# Altium schematic symbol library Vishay Draloric Ceramic Disc Capacitor.SchLib: 519 symbols (part 7 of 8)
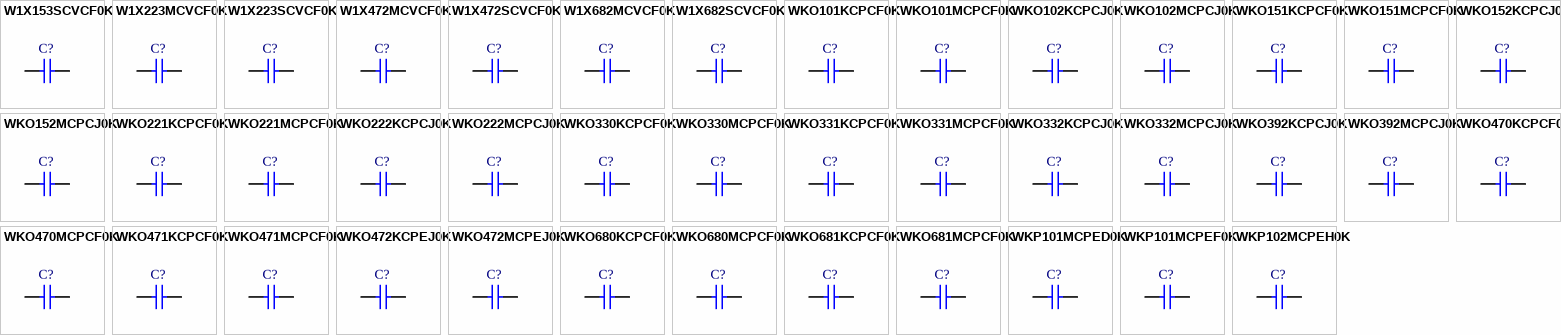
[diagram p18: symbols W1X153SCVCF0K to WKP102MCPEH0K]

## W1X223MCVCF0K
designator C?
Ceramic Disc Capacitor, Class X1 275VAC: 22nF K 10000; Note: See Datasheet for other lead types & tolerances; Published: 17-Dec-2003; DatasheetDocument: 2-Aug-2001; PackageDocument: 2-Aug-2001; PackageReference: CAPRD7.5-20X3; Publisher: Altium Limited; ComponentLink1Description: Manufacturer Link; ComponentLink1URL: http://www.vishay.com/; ComponentLink2Description: Datasheet; ComponentLink2URL: http://www.vishay.com/docs/22201/w1x.pdf; Value: 22nF
footprint CAPRD7.5-20X3 (Capacitor, Ceramic, Thru-Hole, Disc; Body 20 x 3 mm (LxW max) Pin Spacing 7.5 mm (typ))
simulation model CAP (Capacitor)
signal-integrity model Cap
pins: 1, 2

## W1X223SCVCF0K
designator C?
Ceramic Disc Capacitor, Class X1 275VAC: 22nF K 10000; Note: See Datasheet for other lead types & tolerances; Published: 17-Dec-2003; DatasheetDocument: 2-Aug-2001; PackageDocument: 2-Aug-2001; PackageReference: CAPRD7.5-20X3; Publisher: Altium Limited; ComponentLink1Description: Manufacturer Link; ComponentLink1URL: http://www.vishay.com/; ComponentLink2Description: Datasheet; ComponentLink2URL: http://www.vishay.com/docs/22201/w1x.pdf; Value: 22nF
footprint CAPRD7.5-20X3 (Capacitor, Ceramic, Thru-Hole, Disc; Body 20 x 3 mm (LxW max) Pin Spacing 7.5 mm (typ))
simulation model CAP (Capacitor)
signal-integrity model Cap
pins: 1, 2

## W1X472MCVCF0K
designator C?
Ceramic Disc Capacitor, Class X1 275VAC: 4700pF K 10000; Note: See Datasheet for other lead types & tolerances; Value: 4.7nF; Published: 17-Dec-2003; DatasheetDocument: 2-Aug-2001; PackageDocument: 2-Aug-2001; PackageReference: CAPRD7.5-11X3; Publisher: Altium Limited; ComponentLink1Description: Manufacturer Link; ComponentLink1URL: http://www.vishay.com/; ComponentLink2Description: Datasheet; ComponentLink2URL: http://www.vishay.com/docs/22201/w1x.pdf
footprint CAPRD7.5-11X3 (Capacitor, Ceramic, Thru-Hole, Disc; Body 11 x 3 mm (LxW max) Pin Spacing 7.5 mm (typ))
simulation model CAP (Capacitor)
signal-integrity model Cap
pins: 1, 2

## W1X472SCVCF0K
designator C?
Ceramic Disc Capacitor, Class X1 275VAC: 4700pF K 10000; Note: See Datasheet for other lead types & tolerances; Value: 4.7nF; Published: 17-Dec-2003; DatasheetDocument: 2-Aug-2001; PackageDocument: 2-Aug-2001; PackageReference: CAPRD7.5-11X3; Publisher: Altium Limited; ComponentLink1Description: Manufacturer Link; ComponentLink1URL: http://www.vishay.com/; ComponentLink2Description: Datasheet; ComponentLink2URL: http://www.vishay.com/docs/22201/w1x.pdf
footprint CAPRD7.5-11X3 (Capacitor, Ceramic, Thru-Hole, Disc; Body 11 x 3 mm (LxW max) Pin Spacing 7.5 mm (typ))
simulation model CAP (Capacitor)
signal-integrity model Cap
pins: 1, 2

## W1X682MCVCF0K
designator C?
Ceramic Disc Capacitor, Class X1 275VAC: 6800pF K 10000; Note: See Datasheet for other lead types & tolerances; Value: 6.8nF; Published: 17-Dec-2003; DatasheetDocument: 2-Aug-2001; PackageDocument: 2-Aug-2001; PackageReference: CAPRD7.5-11X3; Publisher: Altium Limited; ComponentLink1Description: Manufacturer Link; ComponentLink1URL: http://www.vishay.com/; ComponentLink2Description: Datasheet; ComponentLink2URL: http://www.vishay.com/docs/22201/w1x.pdf
footprint CAPRD7.5-11X3 (Capacitor, Ceramic, Thru-Hole, Disc; Body 11 x 3 mm (LxW max) Pin Spacing 7.5 mm (typ))
simulation model CAP (Capacitor)
signal-integrity model Cap
pins: 1, 2

## W1X682SCVCF0K
designator C?
Ceramic Disc Capacitor, Class X1 275VAC: 6800pF K 10000; Note: See Datasheet for other lead types & tolerances; Value: 6.8nF; Published: 17-Dec-2003; DatasheetDocument: 2-Aug-2001; PackageDocument: 2-Aug-2001; PackageReference: CAPRD7.5-11X3; Publisher: Altium Limited; ComponentLink1Description: Manufacturer Link; ComponentLink1URL: http://www.vishay.com/; ComponentLink2Description: Datasheet; ComponentLink2URL: http://www.vishay.com/docs/22201/w1x.pdf
footprint CAPRD7.5-11X3 (Capacitor, Ceramic, Thru-Hole, Disc; Body 11 x 3 mm (LxW max) Pin Spacing 7.5 mm (typ))
simulation model CAP (Capacitor)
signal-integrity model Cap
pins: 1, 2

## WKO101KCPCF0K
designator C?
Ceramic AC Capacitor, Class X1 440VAC / Class Y2 300VAC: 100pF K 1500; Note: See Datasheet for other lead types & tolerances; Published: 17-Dec-2003; DatasheetDocument: 2-Aug-2001; PackageDocument: 2-Aug-2001; PackageReference: CAPRD7.5-7X4.5; Publisher: Altium Limited; ComponentLink1Description: Manufacturer Link; ComponentLink1URL: http://www.vishay.com/; ComponentLink2Description: Datasheet; ComponentLink2URL: http://www.vishay.com/docs/22204/wko.pdf; Value: 100pF
footprint CAPRD7.5-7X4.5 (Capacitor, Ceramic, Thru-Hole, Disc; Body 7 x 4.5 mm (LxW max) Pin Spacing 7.5 mm (typ))
simulation model CAP (Capacitor)
signal-integrity model Cap
pins: 1, 2

## WKO101MCPCF0K
designator C?
Ceramic AC Capacitor, Class X1 440VAC / Class Y2 300VAC: 100pF K 1500; Note: See Datasheet for other lead types & tolerances; Published: 17-Dec-2003; DatasheetDocument: 2-Aug-2001; PackageDocument: 2-Aug-2001; PackageReference: CAPRD7.5-7X4.5; Publisher: Altium Limited; ComponentLink1Description: Manufacturer Link; ComponentLink1URL: http://www.vishay.com/; ComponentLink2Description: Datasheet; ComponentLink2URL: http://www.vishay.com/docs/22204/wko.pdf; Value: 100pF
footprint CAPRD7.5-7X4.5 (Capacitor, Ceramic, Thru-Hole, Disc; Body 7 x 4.5 mm (LxW max) Pin Spacing 7.5 mm (typ))
simulation model CAP (Capacitor)
signal-integrity model Cap
pins: 1, 2

## WKO102KCPCJ0K
designator C?
Ceramic AC Capacitor, Class X1 440VAC / Class Y2 300VAC: 1000pF K 4000; Note: See Datasheet for other lead types & tolerances; Value: 1nF; Published: 17-Dec-2003; DatasheetDocument: 2-Aug-2001; PackageDocument: 2-Aug-2001; PackageReference: CAPRD7.5-9X5B; Publisher: Altium Limited; ComponentLink1Description: Manufacturer Link; ComponentLink1URL: http://www.vishay.com/; ComponentLink2Description: Datasheet; ComponentLink2URL: http://www.vishay.com/docs/22204/wko.pdf
footprint CAPRD7.5-9X5B (Capacitor, Ceramic, Thru-Hole, Disc; Body 9 x 5 mm (LxW max) Pin Spacing 7.5 mm (typ))
simulation model CAP (Capacitor)
signal-integrity model Cap
pins: 1, 2

## WKO102MCPCJ0K
designator C?
Ceramic AC Capacitor, Class X1 440VAC / Class Y2 300VAC: 1000pF K 4000; Note: See Datasheet for other lead types & tolerances; Value: 1nF; Published: 17-Dec-2003; DatasheetDocument: 2-Aug-2001; PackageDocument: 2-Aug-2001; PackageReference: CAPRD7.5-9X5B; Publisher: Altium Limited; ComponentLink1Description: Manufacturer Link; ComponentLink1URL: http://www.vishay.com/; ComponentLink2Description: Datasheet; ComponentLink2URL: http://www.vishay.com/docs/22204/wko.pdf
footprint CAPRD7.5-9X5B (Capacitor, Ceramic, Thru-Hole, Disc; Body 9 x 5 mm (LxW max) Pin Spacing 7.5 mm (typ))
simulation model CAP (Capacitor)
signal-integrity model Cap
pins: 1, 2

## WKO151KCPCF0K
designator C?
Ceramic AC Capacitor, Class X1 440VAC / Class Y2 300VAC: 150pF K 2000; Note: See Datasheet for other lead types & tolerances; Published: 17-Dec-2003; DatasheetDocument: 2-Aug-2001; PackageDocument: 2-Aug-2001; PackageReference: CAPRD7.5-7X4.5; Publisher: Altium Limited; ComponentLink1Description: Manufacturer Link; ComponentLink1URL: http://www.vishay.com/; ComponentLink2Description: Datasheet; ComponentLink2URL: http://www.vishay.com/docs/22204/wko.pdf; Value: 150pF
footprint CAPRD7.5-7X4.5 (Capacitor, Ceramic, Thru-Hole, Disc; Body 7 x 4.5 mm (LxW max) Pin Spacing 7.5 mm (typ))
simulation model CAP (Capacitor)
signal-integrity model Cap
pins: 1, 2

## WKO151MCPCF0K
designator C?
Ceramic AC Capacitor, Class X1 440VAC / Class Y2 300VAC: 150pF K 2000; Note: See Datasheet for other lead types & tolerances; Published: 17-Dec-2003; DatasheetDocument: 2-Aug-2001; PackageDocument: 2-Aug-2001; PackageReference: CAPRD7.5-7X4.5; Publisher: Altium Limited; ComponentLink1Description: Manufacturer Link; ComponentLink1URL: http://www.vishay.com/; ComponentLink2Description: Datasheet; ComponentLink2URL: http://www.vishay.com/docs/22204/wko.pdf; Value: 150pF
footprint CAPRD7.5-7X4.5 (Capacitor, Ceramic, Thru-Hole, Disc; Body 7 x 4.5 mm (LxW max) Pin Spacing 7.5 mm (typ))
simulation model CAP (Capacitor)
signal-integrity model Cap
pins: 1, 2

## WKO152KCPCJ0K
designator C?
Ceramic AC Capacitor, Class X1 440VAC / Class Y2 300VAC: 1500pF K 4000; Note: See Datasheet for other lead types & tolerances; Value: 1.5nF; Published: 17-Dec-2003; DatasheetDocument: 2-Aug-2001; PackageDocument: 2-Aug-2001; PackageReference: CAPRD7.5-10X5B; Publisher: Altium Limited; ComponentLink1Description: Manufacturer Link; ComponentLink1URL: http://www.vishay.com/; ComponentLink2Description: Datasheet; ComponentLink2URL: http://www.vishay.com/docs/22204/wko.pdf
footprint CAPRD7.5-10X5B (Capacitor, Ceramic, Thru-Hole, Disc; Body 10 x 5 mm (LxW max) Pin Spacing 7.5 mm (typ))
simulation model CAP (Capacitor)
signal-integrity model Cap
pins: 1, 2

## WKO152MCPCJ0K
designator C?
Ceramic AC Capacitor, Class X1 440VAC / Class Y2 300VAC: 1500pF K 4000; Note: See Datasheet for other lead types & tolerances; Value: 1.5nF; Published: 17-Dec-2003; DatasheetDocument: 2-Aug-2001; PackageDocument: 2-Aug-2001; PackageReference: CAPRD7.5-10X5B; Publisher: Altium Limited; ComponentLink1Description: Manufacturer Link; ComponentLink1URL: http://www.vishay.com/; ComponentLink2Description: Datasheet; ComponentLink2URL: http://www.vishay.com/docs/22204/wko.pdf
footprint CAPRD7.5-10X5B (Capacitor, Ceramic, Thru-Hole, Disc; Body 10 x 5 mm (LxW max) Pin Spacing 7.5 mm (typ))
simulation model CAP (Capacitor)
signal-integrity model Cap
pins: 1, 2

## WKO221KCPCF0K
designator C?
Ceramic AC Capacitor, Class X1 440VAC / Class Y2 300VAC: 220pF K 2000; Note: See Datasheet for other lead types & tolerances; Published: 17-Dec-2003; DatasheetDocument: 2-Aug-2001; PackageDocument: 2-Aug-2001; PackageReference: CAPRD7.5-7X4.5; Publisher: Altium Limited; ComponentLink1Description: Manufacturer Link; ComponentLink1URL: http://www.vishay.com/; ComponentLink2Description: Datasheet; ComponentLink2URL: http://www.vishay.com/docs/22204/wko.pdf; Value: 220pF
footprint CAPRD7.5-7X4.5 (Capacitor, Ceramic, Thru-Hole, Disc; Body 7 x 4.5 mm (LxW max) Pin Spacing 7.5 mm (typ))
simulation model CAP (Capacitor)
signal-integrity model Cap
pins: 1, 2

## WKO221MCPCF0K
designator C?
Ceramic AC Capacitor, Class X1 440VAC / Class Y2 300VAC: 220pF K 2000; Note: See Datasheet for other lead types & tolerances; Published: 17-Dec-2003; DatasheetDocument: 2-Aug-2001; PackageDocument: 2-Aug-2001; PackageReference: CAPRD7.5-7X4.5; Publisher: Altium Limited; ComponentLink1Description: Manufacturer Link; ComponentLink1URL: http://www.vishay.com/; ComponentLink2Description: Datasheet; ComponentLink2URL: http://www.vishay.com/docs/22204/wko.pdf; Value: 220pF
footprint CAPRD7.5-7X4.5 (Capacitor, Ceramic, Thru-Hole, Disc; Body 7 x 4.5 mm (LxW max) Pin Spacing 7.5 mm (typ))
simulation model CAP (Capacitor)
signal-integrity model Cap
pins: 1, 2

## WKO222KCPCJ0K
designator C?
Ceramic AC Capacitor, Class X1 440VAC / Class Y2 300VAC: 2200pF K 4000; Note: See Datasheet for other lead types & tolerances; Value: 2.2nF; Published: 17-Dec-2003; DatasheetDocument: 2-Aug-2001; PackageDocument: 2-Aug-2001; PackageReference: CAPRD7.5-12X5; Publisher: Altium Limited; ComponentLink1Description: Manufacturer Link; ComponentLink1URL: http://www.vishay.com/; ComponentLink2Description: Datasheet; ComponentLink2URL: http://www.vishay.com/docs/22204/wko.pdf
footprint CAPRD7.5-12X5 (Capacitor, Ceramic, Thru-Hole, Disc; Body 12 x 5 mm (LxW max) Pin Spacing 7.5 mm (typ))
simulation model CAP (Capacitor)
signal-integrity model Cap
pins: 1, 2

## WKO222MCPCJ0K
designator C?
Ceramic AC Capacitor, Class X1 440VAC / Class Y2 300VAC: 2200pF K 4000; Note: See Datasheet for other lead types & tolerances; Value: 2.2nF; Published: 17-Dec-2003; DatasheetDocument: 2-Aug-2001; PackageDocument: 2-Aug-2001; PackageReference: CAPRD7.5-12X5; Publisher: Altium Limited; ComponentLink1Description: Manufacturer Link; ComponentLink1URL: http://www.vishay.com/; ComponentLink2Description: Datasheet; ComponentLink2URL: http://www.vishay.com/docs/22204/wko.pdf
footprint CAPRD7.5-12X5 (Capacitor, Ceramic, Thru-Hole, Disc; Body 12 x 5 mm (LxW max) Pin Spacing 7.5 mm (typ))
simulation model CAP (Capacitor)
signal-integrity model Cap
pins: 1, 2

## WKO330KCPCF0K
designator C?
Ceramic AC Capacitor, Class X1 440VAC / Class Y2 300VAC: 33pF N 750; Note: See Datasheet for other lead types & tolerances; Published: 17-Dec-2003; DatasheetDocument: 2-Aug-2001; PackageDocument: 2-Aug-2001; PackageReference: CAPRD7.5-7X4.5A; Publisher: Altium Limited; ComponentLink1Description: Manufacturer Link; ComponentLink1URL: http://www.vishay.com/; ComponentLink2Description: Datasheet; ComponentLink2URL: http://www.vishay.com/docs/22204/wko.pdf; Value: 33pF
footprint CAPRD7.5-7X4.5A (Capacitor, Ceramic, Thru-Hole, Disc; Body 7 x 4.5 mm (LxW max) Pin Spacing 7.5 mm (typ))
simulation model CAP (Capacitor)
signal-integrity model Cap
pins: 1, 2

## WKO330MCPCF0K
designator C?
Ceramic AC Capacitor, Class X1 440VAC / Class Y2 300VAC: 33pF N 750; Note: See Datasheet for other lead types & tolerances; Published: 17-Dec-2003; DatasheetDocument: 2-Aug-2001; PackageDocument: 2-Aug-2001; PackageReference: CAPRD7.5-7X4.5A; Publisher: Altium Limited; ComponentLink1Description: Manufacturer Link; ComponentLink1URL: http://www.vishay.com/; ComponentLink2Description: Datasheet; ComponentLink2URL: http://www.vishay.com/docs/22204/wko.pdf; Value: 33pF
footprint CAPRD7.5-7X4.5A (Capacitor, Ceramic, Thru-Hole, Disc; Body 7 x 4.5 mm (LxW max) Pin Spacing 7.5 mm (typ))
simulation model CAP (Capacitor)
signal-integrity model Cap
pins: 1, 2

## WKO331KCPCF0K
designator C?
Ceramic AC Capacitor, Class X1 440VAC / Class Y2 300VAC: 330pF K 2000; Note: See Datasheet for other lead types & tolerances; Published: 17-Dec-2003; DatasheetDocument: 2-Aug-2001; PackageDocument: 2-Aug-2001; PackageReference: CAPRD7.5-7X4.5; Publisher: Altium Limited; ComponentLink1Description: Manufacturer Link; ComponentLink1URL: http://www.vishay.com/; ComponentLink2Description: Datasheet; ComponentLink2URL: http://www.vishay.com/docs/22204/wko.pdf; Value: 330pF
footprint CAPRD7.5-7X4.5 (Capacitor, Ceramic, Thru-Hole, Disc; Body 7 x 4.5 mm (LxW max) Pin Spacing 7.5 mm (typ))
simulation model CAP (Capacitor)
signal-integrity model Cap
pins: 1, 2

## WKO331MCPCF0K
designator C?
Ceramic AC Capacitor, Class X1 440VAC / Class Y2 300VAC: 330pF K 2000; Note: See Datasheet for other lead types & tolerances; Published: 17-Dec-2003; DatasheetDocument: 2-Aug-2001; PackageDocument: 2-Aug-2001; PackageReference: CAPRD7.5-7X4.5; Publisher: Altium Limited; ComponentLink1Description: Manufacturer Link; ComponentLink1URL: http://www.vishay.com/; ComponentLink2Description: Datasheet; ComponentLink2URL: http://www.vishay.com/docs/22204/wko.pdf; Value: 330pF
footprint CAPRD7.5-7X4.5 (Capacitor, Ceramic, Thru-Hole, Disc; Body 7 x 4.5 mm (LxW max) Pin Spacing 7.5 mm (typ))
simulation model CAP (Capacitor)
signal-integrity model Cap
pins: 1, 2

## WKO332KCPCJ0K
designator C?
Ceramic AC Capacitor, Class X1 440VAC / Class Y2 300VAC: 3300pF K 4000; Note: See Datasheet for other lead types & tolerances; Value: 3.3nF; Published: 17-Dec-2003; DatasheetDocument: 2-Aug-2001; PackageDocument: 2-Aug-2001; PackageReference: CAPRD7.5-13X5A; Publisher: Altium Limited; ComponentLink1Description: Manufacturer Link; ComponentLink1URL: http://www.vishay.com/; ComponentLink2Description: Datasheet; ComponentLink2URL: http://www.vishay.com/docs/22204/wko.pdf
footprint CAPRD7.5-13X5A (Capacitor, Ceramic, Thru-Hole, Disc; Body 13 x 5 mm (LxW max) Pin Spacing 7.5 mm (typ))
simulation model CAP (Capacitor)
signal-integrity model Cap
pins: 1, 2

## WKO332MCPCJ0K
designator C?
Ceramic AC Capacitor, Class X1 440VAC / Class Y2 300VAC: 3300pF K 4000; Note: See Datasheet for other lead types & tolerances; Value: 3.3nF; Published: 17-Dec-2003; DatasheetDocument: 2-Aug-2001; PackageDocument: 2-Aug-2001; PackageReference: CAPRD7.5-13X5A; Publisher: Altium Limited; ComponentLink1Description: Manufacturer Link; ComponentLink1URL: http://www.vishay.com/; ComponentLink2Description: Datasheet; ComponentLink2URL: http://www.vishay.com/docs/22204/wko.pdf
footprint CAPRD7.5-13X5A (Capacitor, Ceramic, Thru-Hole, Disc; Body 13 x 5 mm (LxW max) Pin Spacing 7.5 mm (typ))
simulation model CAP (Capacitor)
signal-integrity model Cap
pins: 1, 2

## WKO392KCPCJ0K
designator C?
Ceramic AC Capacitor, Class X1 440VAC / Class Y2 300VAC: 3900pF K 4000; Note: See Datasheet for other lead types & tolerances; Value: 3.9nF; Published: 17-Dec-2003; DatasheetDocument: 2-Aug-2001; PackageDocument: 2-Aug-2001; PackageReference: CAPRD7.5-14.5X5; Publisher: Altium Limited; ComponentLink1Description: Manufacturer Link; ComponentLink1URL: http://www.vishay.com/; ComponentLink2Description: Datasheet; ComponentLink2URL: http://www.vishay.com/docs/22204/wko.pdf
footprint CAPRD7.5-14.5X5 (Capacitor, Ceramic, Thru-Hole, Disc; Body 14.5 x 5 mm (LxW max) Pin Spacing 7.5 mm (typ))
simulation model CAP (Capacitor)
signal-integrity model Cap
pins: 1, 2

## WKO392MCPCJ0K
designator C?
Ceramic AC Capacitor, Class X1 440VAC / Class Y2 300VAC: 3900pF K 4000; Note: See Datasheet for other lead types & tolerances; Value: 3.9nF; Published: 17-Dec-2003; DatasheetDocument: 2-Aug-2001; PackageDocument: 2-Aug-2001; PackageReference: CAPRD7.5-14.5X5; Publisher: Altium Limited; ComponentLink1Description: Manufacturer Link; ComponentLink1URL: http://www.vishay.com/; ComponentLink2Description: Datasheet; ComponentLink2URL: http://www.vishay.com/docs/22204/wko.pdf
footprint CAPRD7.5-14.5X5 (Capacitor, Ceramic, Thru-Hole, Disc; Body 14.5 x 5 mm (LxW max) Pin Spacing 7.5 mm (typ))
simulation model CAP (Capacitor)
signal-integrity model Cap
pins: 1, 2

## WKO470KCPCF0K
designator C?
Ceramic AC Capacitor, Class X1 440VAC / Class Y2 300VAC: 47pF N 750; Note: See Datasheet for other lead types & tolerances; Published: 17-Dec-2003; DatasheetDocument: 2-Aug-2001; PackageDocument: 2-Aug-2001; PackageReference: CAPRD7.5-7X4.5A; Publisher: Altium Limited; ComponentLink1Description: Manufacturer Link; ComponentLink1URL: http://www.vishay.com/; ComponentLink2Description: Datasheet; ComponentLink2URL: http://www.vishay.com/docs/22204/wko.pdf; Value: 47pF
footprint CAPRD7.5-7X4.5A (Capacitor, Ceramic, Thru-Hole, Disc; Body 7 x 4.5 mm (LxW max) Pin Spacing 7.5 mm (typ))
simulation model CAP (Capacitor)
signal-integrity model Cap
pins: 1, 2

## WKO470MCPCF0K
designator C?
Ceramic AC Capacitor, Class X1 440VAC / Class Y2 300VAC: 47pF N 750; Note: See Datasheet for other lead types & tolerances; Published: 17-Dec-2003; DatasheetDocument: 2-Aug-2001; PackageDocument: 2-Aug-2001; PackageReference: CAPRD7.5-7X4.5A; Publisher: Altium Limited; ComponentLink1Description: Manufacturer Link; ComponentLink1URL: http://www.vishay.com/; ComponentLink2Description: Datasheet; ComponentLink2URL: http://www.vishay.com/docs/22204/wko.pdf; Value: 47pF
footprint CAPRD7.5-7X4.5A (Capacitor, Ceramic, Thru-Hole, Disc; Body 7 x 4.5 mm (LxW max) Pin Spacing 7.5 mm (typ))
simulation model CAP (Capacitor)
signal-integrity model Cap
pins: 1, 2

## WKO471KCPCF0K
designator C?
Ceramic AC Capacitor, Class X1 440VAC / Class Y2 300VAC: 470pF K 4000; Note: See Datasheet for other lead types & tolerances; Published: 17-Dec-2003; DatasheetDocument: 2-Aug-2001; PackageDocument: 2-Aug-2001; PackageReference: CAPRD7.5-7X4.5; Publisher: Altium Limited; ComponentLink1Description: Manufacturer Link; ComponentLink1URL: http://www.vishay.com/; ComponentLink2Description: Datasheet; ComponentLink2URL: http://www.vishay.com/docs/22204/wko.pdf; Value: 470pF
footprint CAPRD7.5-7X4.5 (Capacitor, Ceramic, Thru-Hole, Disc; Body 7 x 4.5 mm (LxW max) Pin Spacing 7.5 mm (typ))
simulation model CAP (Capacitor)
signal-integrity model Cap
pins: 1, 2

## WKO471MCPCF0K
designator C?
Ceramic AC Capacitor, Class X1 440VAC / Class Y2 300VAC: 470pF K 4000; Note: See Datasheet for other lead types & tolerances; Published: 17-Dec-2003; DatasheetDocument: 2-Aug-2001; PackageDocument: 2-Aug-2001; PackageReference: CAPRD7.5-7X4.5; Publisher: Altium Limited; ComponentLink1Description: Manufacturer Link; ComponentLink1URL: http://www.vishay.com/; ComponentLink2Description: Datasheet; ComponentLink2URL: http://www.vishay.com/docs/22204/wko.pdf; Value: 470pF
footprint CAPRD7.5-7X4.5 (Capacitor, Ceramic, Thru-Hole, Disc; Body 7 x 4.5 mm (LxW max) Pin Spacing 7.5 mm (typ))
simulation model CAP (Capacitor)
signal-integrity model Cap
pins: 1, 2

## WKO472KCPEJ0K
designator C?
Ceramic AC Capacitor, Class X1 440VAC / Class Y2 300VAC: 4700pF K 4000; Note: See Datasheet for other lead types & tolerances; Value: 4.7nF; Published: 17-Dec-2003; DatasheetDocument: 2-Aug-2001; PackageDocument: 2-Aug-2001; PackageReference: CAPRD12.5-14.5X5; Publisher: Altium Limited; ComponentLink1Description: Manufacturer Link; ComponentLink1URL: http://www.vishay.com/; ComponentLink2Description: Datasheet; ComponentLink2URL: http://www.vishay.com/docs/22204/wko.pdf
footprint CAPRD12.5-14.5X5 (Capacitor, Ceramic, Thru-Hole, Disc; Body 14.5 x 5 mm (LxW max) Pin Spacing 12.5 mm (typ))
simulation model CAP (Capacitor)
signal-integrity model Cap
pins: 1, 2

## WKO472MCPEJ0K
designator C?
Ceramic AC Capacitor, Class X1 440VAC / Class Y2 300VAC: 4700pF K 4000; Note: See Datasheet for other lead types & tolerances; Value: 4.7nF; Published: 17-Dec-2003; DatasheetDocument: 2-Aug-2001; PackageDocument: 2-Aug-2001; PackageReference: CAPRD12.5-14.5X5; Publisher: Altium Limited; ComponentLink1Description: Manufacturer Link; ComponentLink1URL: http://www.vishay.com/; ComponentLink2Description: Datasheet; ComponentLink2URL: http://www.vishay.com/docs/22204/wko.pdf
footprint CAPRD12.5-14.5X5 (Capacitor, Ceramic, Thru-Hole, Disc; Body 14.5 x 5 mm (LxW max) Pin Spacing 12.5 mm (typ))
simulation model CAP (Capacitor)
signal-integrity model Cap
pins: 1, 2

## WKO680KCPCF0K
designator C?
Ceramic AC Capacitor, Class X1 440VAC / Class Y2 300VAC: 68pF K 1200; Note: See Datasheet for other lead types & tolerances; Published: 17-Dec-2003; DatasheetDocument: 2-Aug-2001; PackageDocument: 2-Aug-2001; PackageReference: CAPRD7.5-7X4.5; Publisher: Altium Limited; ComponentLink1Description: Manufacturer Link; ComponentLink1URL: http://www.vishay.com/; ComponentLink2Description: Datasheet; ComponentLink2URL: http://www.vishay.com/docs/22204/wko.pdf; Value: 68pF
footprint CAPRD7.5-7X4.5 (Capacitor, Ceramic, Thru-Hole, Disc; Body 7 x 4.5 mm (LxW max) Pin Spacing 7.5 mm (typ))
simulation model CAP (Capacitor)
signal-integrity model Cap
pins: 1, 2

## WKO680MCPCF0K
designator C?
Ceramic AC Capacitor, Class X1 440VAC / Class Y2 300VAC: 68pF K 1200; Note: See Datasheet for other lead types & tolerances; Published: 17-Dec-2003; DatasheetDocument: 2-Aug-2001; PackageDocument: 2-Aug-2001; PackageReference: CAPRD7.5-7X4.5; Publisher: Altium Limited; ComponentLink1Description: Manufacturer Link; ComponentLink1URL: http://www.vishay.com/; ComponentLink2Description: Datasheet; ComponentLink2URL: http://www.vishay.com/docs/22204/wko.pdf; Value: 68pF
footprint CAPRD7.5-7X4.5 (Capacitor, Ceramic, Thru-Hole, Disc; Body 7 x 4.5 mm (LxW max) Pin Spacing 7.5 mm (typ))
simulation model CAP (Capacitor)
signal-integrity model Cap
pins: 1, 2

## WKO681KCPCF0K
designator C?
Ceramic AC Capacitor, Class X1 440VAC / Class Y2 300VAC: 680pF K 4000; Note: See Datasheet for other lead types & tolerances; Published: 17-Dec-2003; DatasheetDocument: 2-Aug-2001; PackageDocument: 2-Aug-2001; PackageReference: CAPRD7.5-9X5A; Publisher: Altium Limited; ComponentLink1Description: Manufacturer Link; ComponentLink1URL: http://www.vishay.com/; ComponentLink2Description: Datasheet; ComponentLink2URL: http://www.vishay.com/docs/22204/wko.pdf; Value: 680pF
footprint CAPRD7.5-9X5A (Capacitor, Ceramic, Thru-Hole, Disc; Body 9 x 5 mm (LxW max) Pin Spacing 7.5 mm (typ))
simulation model CAP (Capacitor)
signal-integrity model Cap
pins: 1, 2

## WKO681MCPCF0K
designator C?
Ceramic AC Capacitor, Class X1 440VAC / Class Y2 300VAC: 680pF K 4000; Note: See Datasheet for other lead types & tolerances; Published: 17-Dec-2003; DatasheetDocument: 2-Aug-2001; PackageDocument: 2-Aug-2001; PackageReference: CAPRD7.5-9X5A; Publisher: Altium Limited; ComponentLink1Description: Manufacturer Link; ComponentLink1URL: http://www.vishay.com/; ComponentLink2Description: Datasheet; ComponentLink2URL: http://www.vishay.com/docs/22204/wko.pdf; Value: 680pF
footprint CAPRD7.5-9X5A (Capacitor, Ceramic, Thru-Hole, Disc; Body 9 x 5 mm (LxW max) Pin Spacing 7.5 mm (typ))
simulation model CAP (Capacitor)
signal-integrity model Cap
pins: 1, 2

## WKP101MCPED0K
designator C?
Ceramic Disc Suppression Capacitor, Class X1 AC 760V / Class Y1 AC 500V: 100pF +/-20% K1500; Note: See Datasheet for other lead types & tolerances; Published: 17-Dec-2003; DatasheetDocument: 6-Oct-2000; PackageDocument: 2-Aug-2001; PackageReference: CAPRD12.5-8X6; Publisher: Altium Limited; ComponentLink1Description: Manufacturer Link; ComponentLink1URL: http://www.vishay.com/; ComponentLink2Description: Datasheet; ComponentLink2URL: http://www.vishay.com/docs/22206/wkp.pdf; Value: 100pF
footprint CAPRD12.5-8X6 (Capacitor, Ceramic, Thru-Hole, Disc; Body 8 x 6 mm (LxW max) Pin Spacing 12.5 mm (typ))
simulation model CAP (Capacitor)
signal-integrity model Cap
pins: 1, 2

## WKP101MCPEF0K
designator C?
Ceramic Disc Suppression Capacitor, Class X1 AC 760V / Class Y1 AC 500V: 100pF +/-20% K1500; Note: See Datasheet for other lead types & tolerances; Published: 17-Dec-2003; DatasheetDocument: 6-Oct-2000; PackageDocument: 2-Aug-2001; PackageReference: CAPRD12.5-8X6; Publisher: Altium Limited; ComponentLink1Description: Manufacturer Link; ComponentLink1URL: http://www.vishay.com/; ComponentLink2Description: Datasheet; ComponentLink2URL: http://www.vishay.com/docs/22206/wkp.pdf; Value: 100pF
footprint CAPRD12.5-8X6 (Capacitor, Ceramic, Thru-Hole, Disc; Body 8 x 6 mm (LxW max) Pin Spacing 12.5 mm (typ))
simulation model CAP (Capacitor)
signal-integrity model Cap
pins: 1, 2

## WKP102MCPEH0K
designator C?
Ceramic Disc Suppression Capacitor, Class X1 AC 760V / Class Y1 AC 500V: 1000pF +/-20% K 2000; Note: See Datasheet for other lead types & tolerances; Value: 1nF; Published: 17-Dec-2003; DatasheetDocument: 6-Oct-2000; PackageDocument: 2-Aug-2001; PackageReference: CAPRD12.5-10X6; Publisher: Altium Limited; ComponentLink1Description: Manufacturer Link; ComponentLink1URL: http://www.vishay.com/; ComponentLink2Description: Datasheet; ComponentLink2URL: http://www.vishay.com/docs/22206/wkp.pdf
footprint CAPRD12.5-10X6 (Capacitor, Ceramic, Thru-Hole, Disc; Body 10 x 6 mm (LxW max) Pin Spacing 12.5 mm (typ))
simulation model CAP (Capacitor)
signal-integrity model Cap
pins: 1, 2

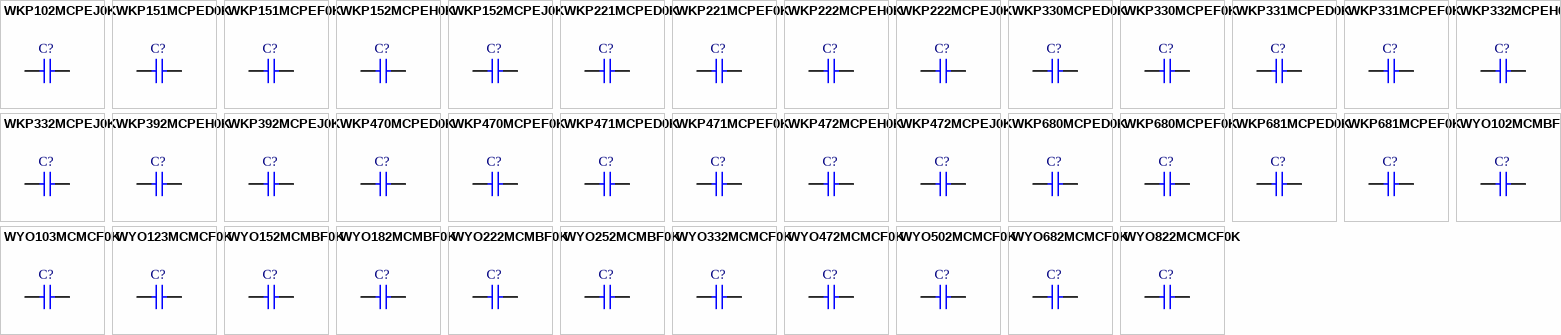
[diagram p12: symbols WKP102MCPEJ0K to WYO822MCMCF0K]

## WKP102MCPEJ0K
designator C?
Ceramic Disc Suppression Capacitor, Class X1 AC 760V / Class Y1 AC 500V: 1000pF +/-20% K 2000; Note: See Datasheet for other lead types & tolerances; Value: 1nF; Published: 17-Dec-2003; DatasheetDocument: 6-Oct-2000; PackageDocument: 2-Aug-2001; PackageReference: CAPRD12.5-10X6; Publisher: Altium Limited; ComponentLink1Description: Manufacturer Link; ComponentLink1URL: http://www.vishay.com/; ComponentLink2Description: Datasheet; ComponentLink2URL: http://www.vishay.com/docs/22206/wkp.pdf
footprint CAPRD12.5-10X6 (Capacitor, Ceramic, Thru-Hole, Disc; Body 10 x 6 mm (LxW max) Pin Spacing 12.5 mm (typ))
simulation model CAP (Capacitor)
signal-integrity model Cap
pins: 1, 2

## WKP151MCPED0K
designator C?
Ceramic Disc Suppression Capacitor, Class X1 AC 760V / Class Y1 AC 500V: 150pF +/-20% K 2000; Note: See Datasheet for other lead types & tolerances; Published: 17-Dec-2003; DatasheetDocument: 6-Oct-2000; PackageDocument: 2-Aug-2001; PackageReference: CAPRD12.5-8X6; Publisher: Altium Limited; ComponentLink1Description: Manufacturer Link; ComponentLink1URL: http://www.vishay.com/; ComponentLink2Description: Datasheet; ComponentLink2URL: http://www.vishay.com/docs/22206/wkp.pdf; Value: 150pF
footprint CAPRD12.5-8X6 (Capacitor, Ceramic, Thru-Hole, Disc; Body 8 x 6 mm (LxW max) Pin Spacing 12.5 mm (typ))
simulation model CAP (Capacitor)
signal-integrity model Cap
pins: 1, 2

## WKP151MCPEF0K
designator C?
Ceramic Disc Suppression Capacitor, Class X1 AC 760V / Class Y1 AC 500V: 150pF +/-20% K 2000; Note: See Datasheet for other lead types & tolerances; Published: 17-Dec-2003; DatasheetDocument: 6-Oct-2000; PackageDocument: 2-Aug-2001; PackageReference: CAPRD12.5-8X6; Publisher: Altium Limited; ComponentLink1Description: Manufacturer Link; ComponentLink1URL: http://www.vishay.com/; ComponentLink2Description: Datasheet; ComponentLink2URL: http://www.vishay.com/docs/22206/wkp.pdf; Value: 150pF
footprint CAPRD12.5-8X6 (Capacitor, Ceramic, Thru-Hole, Disc; Body 8 x 6 mm (LxW max) Pin Spacing 12.5 mm (typ))
simulation model CAP (Capacitor)
signal-integrity model Cap
pins: 1, 2

## WKP152MCPEH0K
designator C?
Ceramic Disc Suppression Capacitor, Class X1 AC 760V / Class Y1 AC 500V: 1500pF +/-20% K 4000; Note: See Datasheet for other lead types & tolerances; Value: 1.5nF; Published: 17-Dec-2003; DatasheetDocument: 6-Oct-2000; PackageDocument: 2-Aug-2001; PackageReference: CAPRD12.5-12X6; Publisher: Altium Limited; ComponentLink1Description: Manufacturer Link; ComponentLink1URL: http://www.vishay.com/; ComponentLink2Description: Datasheet; ComponentLink2URL: http://www.vishay.com/docs/22206/wkp.pdf
footprint CAPRD12.5-12X6 (Capacitor, Ceramic, Thru-Hole, Disc; Body 12 x 6 mm (LxW max) Pin Spacing 12.5 mm (typ))
simulation model CAP (Capacitor)
signal-integrity model Cap
pins: 1, 2

## WKP152MCPEJ0K
designator C?
Ceramic Disc Suppression Capacitor, Class X1 AC 760V / Class Y1 AC 500V: 1500pF +/-20% K 4000; Note: See Datasheet for other lead types & tolerances; Value: 1.5nF; Published: 17-Dec-2003; DatasheetDocument: 6-Oct-2000; PackageDocument: 2-Aug-2001; PackageReference: CAPRD12.5-12X6; Publisher: Altium Limited; ComponentLink1Description: Manufacturer Link; ComponentLink1URL: http://www.vishay.com/; ComponentLink2Description: Datasheet; ComponentLink2URL: http://www.vishay.com/docs/22206/wkp.pdf
footprint CAPRD12.5-12X6 (Capacitor, Ceramic, Thru-Hole, Disc; Body 12 x 6 mm (LxW max) Pin Spacing 12.5 mm (typ))
simulation model CAP (Capacitor)
signal-integrity model Cap
pins: 1, 2

## WKP221MCPED0K
designator C?
Ceramic Disc Suppression Capacitor, Class X1 AC 760V / Class Y1 AC 500V: 220pF +/-20% K 2000; Note: See Datasheet for other lead types & tolerances; Published: 17-Dec-2003; DatasheetDocument: 6-Oct-2000; PackageDocument: 2-Aug-2001; PackageReference: CAPRD12.5-8X6; Publisher: Altium Limited; ComponentLink1Description: Manufacturer Link; ComponentLink1URL: http://www.vishay.com/; ComponentLink2Description: Datasheet; ComponentLink2URL: http://www.vishay.com/docs/22206/wkp.pdf; Value: 220pF
footprint CAPRD12.5-8X6 (Capacitor, Ceramic, Thru-Hole, Disc; Body 8 x 6 mm (LxW max) Pin Spacing 12.5 mm (typ))
simulation model CAP (Capacitor)
signal-integrity model Cap
pins: 1, 2

## WKP221MCPEF0K
designator C?
Ceramic Disc Suppression Capacitor, Class X1 AC 760V / Class Y1 AC 500V: 220pF +/-20% K 2000; Note: See Datasheet for other lead types & tolerances; Published: 17-Dec-2003; DatasheetDocument: 6-Oct-2000; PackageDocument: 2-Aug-2001; PackageReference: CAPRD12.5-8X6; Publisher: Altium Limited; ComponentLink1Description: Manufacturer Link; ComponentLink1URL: http://www.vishay.com/; ComponentLink2Description: Datasheet; ComponentLink2URL: http://www.vishay.com/docs/22206/wkp.pdf; Value: 220pF
footprint CAPRD12.5-8X6 (Capacitor, Ceramic, Thru-Hole, Disc; Body 8 x 6 mm (LxW max) Pin Spacing 12.5 mm (typ))
simulation model CAP (Capacitor)
signal-integrity model Cap
pins: 1, 2

## WKP222MCPEH0K
designator C?
Ceramic Disc Suppression Capacitor, Class X1 AC 760V / Class Y1 AC 500V: 2200pF +/-20% K 4000; Note: See Datasheet for other lead types & tolerances; Value: 2.2nF; Published: 17-Dec-2003; DatasheetDocument: 6-Oct-2000; PackageDocument: 2-Aug-2001; PackageReference: CAPRD12.5-13X6; Publisher: Altium Limited; ComponentLink1Description: Manufacturer Link; ComponentLink1URL: http://www.vishay.com/; ComponentLink2Description: Datasheet; ComponentLink2URL: http://www.vishay.com/docs/22206/wkp.pdf
footprint CAPRD12.5-13X6 (Capacitor, Ceramic, Thru-Hole, Disc; Body 13 x 6 mm (LxW max) Pin Spacing 12.5 mm (typ))
simulation model CAP (Capacitor)
signal-integrity model Cap
pins: 1, 2

## WKP222MCPEJ0K
designator C?
Ceramic Disc Suppression Capacitor, Class X1 AC 760V / Class Y1 AC 500V: 2200pF +/-20% K 4000; Note: See Datasheet for other lead types & tolerances; Value: 2.2nF; Published: 17-Dec-2003; DatasheetDocument: 6-Oct-2000; PackageDocument: 2-Aug-2001; PackageReference: CAPRD12.5-13X6; Publisher: Altium Limited; ComponentLink1Description: Manufacturer Link; ComponentLink1URL: http://www.vishay.com/; ComponentLink2Description: Datasheet; ComponentLink2URL: http://www.vishay.com/docs/22206/wkp.pdf
footprint CAPRD12.5-13X6 (Capacitor, Ceramic, Thru-Hole, Disc; Body 13 x 6 mm (LxW max) Pin Spacing 12.5 mm (typ))
simulation model CAP (Capacitor)
signal-integrity model Cap
pins: 1, 2

## WKP330MCPED0K
designator C?
Ceramic Disc Suppression Capacitor, Class X1 AC 760V / Class Y1 AC 500V: 33pF +/-20% N 750; Note: See Datasheet for other lead types & tolerances; Published: 17-Dec-2003; DatasheetDocument: 6-Oct-2000; PackageDocument: 2-Aug-2001; PackageReference: CAPRD12.5-8X6; Publisher: Altium Limited; ComponentLink1Description: Manufacturer Link; ComponentLink1URL: http://www.vishay.com/; ComponentLink2Description: Datasheet; ComponentLink2URL: http://www.vishay.com/docs/22206/wkp.pdf; Value: 33pF
footprint CAPRD12.5-8X6 (Capacitor, Ceramic, Thru-Hole, Disc; Body 8 x 6 mm (LxW max) Pin Spacing 12.5 mm (typ))
simulation model CAP (Capacitor)
signal-integrity model Cap
pins: 1, 2

## WKP330MCPEF0K
designator C?
Ceramic Disc Suppression Capacitor, Class X1 AC 760V / Class Y1 AC 500V: 33pF +/-20% N 750; Note: See Datasheet for other lead types & tolerances; Published: 17-Dec-2003; DatasheetDocument: 6-Oct-2000; PackageDocument: 2-Aug-2001; PackageReference: CAPRD12.5-8X6; Publisher: Altium Limited; ComponentLink1Description: Manufacturer Link; ComponentLink1URL: http://www.vishay.com/; ComponentLink2Description: Datasheet; ComponentLink2URL: http://www.vishay.com/docs/22206/wkp.pdf; Value: 33pF
footprint CAPRD12.5-8X6 (Capacitor, Ceramic, Thru-Hole, Disc; Body 8 x 6 mm (LxW max) Pin Spacing 12.5 mm (typ))
simulation model CAP (Capacitor)
signal-integrity model Cap
pins: 1, 2

## WKP331MCPED0K
designator C?
Ceramic Disc Suppression Capacitor, Class X1 AC 760V / Class Y1 AC 500V: 330pF +/-20% K 2000; Note: See Datasheet for other lead types & tolerances; Published: 17-Dec-2003; DatasheetDocument: 6-Oct-2000; PackageDocument: 2-Aug-2001; PackageReference: CAPRD12.5-8X6A; Publisher: Altium Limited; ComponentLink1Description: Manufacturer Link; ComponentLink1URL: http://www.vishay.com/; ComponentLink2Description: Datasheet; ComponentLink2URL: http://www.vishay.com/docs/22206/wkp.pdf; Value: 330pF
footprint CAPRD12.5-8X6A (Capacitor, Ceramic, Thru-Hole, Disc; Body 8 x 6 mm (LxW max) Pin Spacing 12.5 mm (typ))
simulation model CAP (Capacitor)
signal-integrity model Cap
pins: 1, 2

## WKP331MCPEF0K
designator C?
Ceramic Disc Suppression Capacitor, Class X1 AC 760V / Class Y1 AC 500V: 330pF +/-20% K 2000; Note: See Datasheet for other lead types & tolerances; Published: 17-Dec-2003; DatasheetDocument: 6-Oct-2000; PackageDocument: 2-Aug-2001; PackageReference: CAPRD12.5-8X6A; Publisher: Altium Limited; ComponentLink1Description: Manufacturer Link; ComponentLink1URL: http://www.vishay.com/; ComponentLink2Description: Datasheet; ComponentLink2URL: http://www.vishay.com/docs/22206/wkp.pdf; Value: 330pF
footprint CAPRD12.5-8X6A (Capacitor, Ceramic, Thru-Hole, Disc; Body 8 x 6 mm (LxW max) Pin Spacing 12.5 mm (typ))
simulation model CAP (Capacitor)
signal-integrity model Cap
pins: 1, 2

## WKP332MCPEH0K
designator C?
Ceramic Disc Suppression Capacitor, Class X1 AC 760V / Class Y1 AC 500V: 3300pF +/-20% K 4000; Note: See Datasheet for other lead types & tolerances; Value: 3.3nF; Published: 17-Dec-2003; DatasheetDocument: 6-Oct-2000; PackageDocument: 2-Aug-2001; PackageReference: CAPRD12.5-15X6; Publisher: Altium Limited; ComponentLink1Description: Manufacturer Link; ComponentLink1URL: http://www.vishay.com/; ComponentLink2Description: Datasheet; ComponentLink2URL: http://www.vishay.com/docs/22206/wkp.pdf
footprint CAPRD12.5-15X6 (Capacitor, Ceramic, Thru-Hole, Disc; Body 15 x 6 mm (LxW max) Pin Spacing 12.5 mm (typ))
simulation model CAP (Capacitor)
signal-integrity model Cap
pins: 1, 2

## WKP332MCPEJ0K
designator C?
Ceramic Disc Suppression Capacitor, Class X1 AC 760V / Class Y1 AC 500V: 3300pF +/-20% K 4000; Note: See Datasheet for other lead types & tolerances; Value: 3.3nF; Published: 17-Dec-2003; DatasheetDocument: 6-Oct-2000; PackageDocument: 2-Aug-2001; PackageReference: CAPRD12.5-15X6; Publisher: Altium Limited; ComponentLink1Description: Manufacturer Link; ComponentLink1URL: http://www.vishay.com/; ComponentLink2Description: Datasheet; ComponentLink2URL: http://www.vishay.com/docs/22206/wkp.pdf
footprint CAPRD12.5-15X6 (Capacitor, Ceramic, Thru-Hole, Disc; Body 15 x 6 mm (LxW max) Pin Spacing 12.5 mm (typ))
simulation model CAP (Capacitor)
signal-integrity model Cap
pins: 1, 2

## WKP392MCPEH0K
designator C?
Ceramic Disc Suppression Capacitor, Class X1 AC 760V / Class Y1 AC 500V: 3900pF +/-20% K 4000; Note: See Datasheet for other lead types & tolerances; Value: 3.9nF; Published: 17-Dec-2003; DatasheetDocument: 6-Oct-2000; PackageDocument: 2-Aug-2001; PackageReference: CAPRD12.5-16X6; Publisher: Altium Limited; ComponentLink1Description: Manufacturer Link; ComponentLink1URL: http://www.vishay.com/; ComponentLink2Description: Datasheet; ComponentLink2URL: http://www.vishay.com/docs/22206/wkp.pdf
footprint CAPRD12.5-16X6 (Capacitor, Ceramic, Thru-Hole, Disc; Body 16 x 6 mm (LxW max) Pin Spacing 12.5 mm (typ))
simulation model CAP (Capacitor)
signal-integrity model Cap
pins: 1, 2

## WKP392MCPEJ0K
designator C?
Ceramic Disc Suppression Capacitor, Class X1 AC 760V / Class Y1 AC 500V: 3900pF +/-20% K 4000; Note: See Datasheet for other lead types & tolerances; Value: 3.9nF; Published: 17-Dec-2003; DatasheetDocument: 6-Oct-2000; PackageDocument: 2-Aug-2001; PackageReference: CAPRD12.5-16X6; Publisher: Altium Limited; ComponentLink1Description: Manufacturer Link; ComponentLink1URL: http://www.vishay.com/; ComponentLink2Description: Datasheet; ComponentLink2URL: http://www.vishay.com/docs/22206/wkp.pdf
footprint CAPRD12.5-16X6 (Capacitor, Ceramic, Thru-Hole, Disc; Body 16 x 6 mm (LxW max) Pin Spacing 12.5 mm (typ))
simulation model CAP (Capacitor)
signal-integrity model Cap
pins: 1, 2

## WKP470MCPED0K
designator C?
Ceramic Disc Suppression Capacitor, Class X1 AC 760V / Class Y1 AC 500V: 47pF +/-20% K 1200; Note: See Datasheet for other lead types & tolerances; Published: 17-Dec-2003; DatasheetDocument: 6-Oct-2000; PackageDocument: 2-Aug-2001; PackageReference: CAPRD12.5-8X6; Publisher: Altium Limited; ComponentLink1Description: Manufacturer Link; ComponentLink1URL: http://www.vishay.com/; ComponentLink2Description: Datasheet; ComponentLink2URL: http://www.vishay.com/docs/22206/wkp.pdf; Value: 47pF
footprint CAPRD12.5-8X6 (Capacitor, Ceramic, Thru-Hole, Disc; Body 8 x 6 mm (LxW max) Pin Spacing 12.5 mm (typ))
simulation model CAP (Capacitor)
signal-integrity model Cap
pins: 1, 2

## WKP470MCPEF0K
designator C?
Ceramic Disc Suppression Capacitor, Class X1 AC 760V / Class Y1 AC 500V: 47pF +/-20% K 1200; Note: See Datasheet for other lead types & tolerances; Published: 17-Dec-2003; DatasheetDocument: 6-Oct-2000; PackageDocument: 2-Aug-2001; PackageReference: CAPRD12.5-8X6; Publisher: Altium Limited; ComponentLink1Description: Manufacturer Link; ComponentLink1URL: http://www.vishay.com/; ComponentLink2Description: Datasheet; ComponentLink2URL: http://www.vishay.com/docs/22206/wkp.pdf; Value: 47pF
footprint CAPRD12.5-8X6 (Capacitor, Ceramic, Thru-Hole, Disc; Body 8 x 6 mm (LxW max) Pin Spacing 12.5 mm (typ))
simulation model CAP (Capacitor)
signal-integrity model Cap
pins: 1, 2

## WKP471MCPED0K
designator C?
Ceramic Disc Suppression Capacitor, Class X1 AC 760V / Class Y1 AC 500V: 470pF +/-20% K 2000; Note: See Datasheet for other lead types & tolerances; Published: 17-Dec-2003; DatasheetDocument: 6-Oct-2000; PackageDocument: 2-Aug-2001; PackageReference: CAPRD12.5-8X6A; Publisher: Altium Limited; ComponentLink1Description: Manufacturer Link; ComponentLink1URL: http://www.vishay.com/; ComponentLink2Description: Datasheet; ComponentLink2URL: http://www.vishay.com/docs/22206/wkp.pdf; Value: 470pF
footprint CAPRD12.5-8X6A (Capacitor, Ceramic, Thru-Hole, Disc; Body 8 x 6 mm (LxW max) Pin Spacing 12.5 mm (typ))
simulation model CAP (Capacitor)
signal-integrity model Cap
pins: 1, 2

## WKP471MCPEF0K
designator C?
Ceramic Disc Suppression Capacitor, Class X1 AC 760V / Class Y1 AC 500V: 470pF +/-20% K 2000; Note: See Datasheet for other lead types & tolerances; Published: 17-Dec-2003; DatasheetDocument: 6-Oct-2000; PackageDocument: 2-Aug-2001; PackageReference: CAPRD12.5-8X6A; Publisher: Altium Limited; ComponentLink1Description: Manufacturer Link; ComponentLink1URL: http://www.vishay.com/; ComponentLink2Description: Datasheet; ComponentLink2URL: http://www.vishay.com/docs/22206/wkp.pdf; Value: 470pF
footprint CAPRD12.5-8X6A (Capacitor, Ceramic, Thru-Hole, Disc; Body 8 x 6 mm (LxW max) Pin Spacing 12.5 mm (typ))
simulation model CAP (Capacitor)
signal-integrity model Cap
pins: 1, 2

## WKP472MCPEH0K
designator C?
Ceramic Disc Suppression Capacitor, Class X1 AC 760V / Class Y1 AC 500V: 4700pF +/-20% K 4000; Note: See Datasheet for other lead types & tolerances; Value: 4.7nF; Published: 17-Dec-2003; DatasheetDocument: 6-Oct-2000; PackageDocument: 2-Aug-2001; PackageReference: CAPRD12.5-18X6; Publisher: Altium Limited; ComponentLink1Description: Manufacturer Link; ComponentLink1URL: http://www.vishay.com/; ComponentLink2Description: Datasheet; ComponentLink2URL: http://www.vishay.com/docs/22206/wkp.pdf
footprint CAPRD12.5-18X6 (Capacitor, Ceramic, Thru-Hole, Disc; Body 18 x 6 mm (LxW max) Pin Spacing 12.5 mm (typ))
simulation model CAP (Capacitor)
signal-integrity model Cap
pins: 1, 2

## WKP472MCPEJ0K
designator C?
Ceramic Disc Suppression Capacitor, Class X1 AC 760V / Class Y1 AC 500V: 4700pF +/-20% K 4000; Note: See Datasheet for other lead types & tolerances; Value: 4.7nF; Published: 17-Dec-2003; DatasheetDocument: 6-Oct-2000; PackageDocument: 2-Aug-2001; PackageReference: CAPRD12.5-18X6; Publisher: Altium Limited; ComponentLink1Description: Manufacturer Link; ComponentLink1URL: http://www.vishay.com/; ComponentLink2Description: Datasheet; ComponentLink2URL: http://www.vishay.com/docs/22206/wkp.pdf
footprint CAPRD12.5-18X6 (Capacitor, Ceramic, Thru-Hole, Disc; Body 18 x 6 mm (LxW max) Pin Spacing 12.5 mm (typ))
simulation model CAP (Capacitor)
signal-integrity model Cap
pins: 1, 2

## WKP680MCPED0K
designator C?
Ceramic Disc Suppression Capacitor, Class X1 AC 760V / Class Y1 AC 500V: 68pF +/-20% K 1200; Note: See Datasheet for other lead types & tolerances; Published: 17-Dec-2003; DatasheetDocument: 6-Oct-2000; PackageDocument: 2-Aug-2001; PackageReference: CAPRD12.5-8X6; Publisher: Altium Limited; ComponentLink1Description: Manufacturer Link; ComponentLink1URL: http://www.vishay.com/; ComponentLink2Description: Datasheet; ComponentLink2URL: http://www.vishay.com/docs/22206/wkp.pdf; Value: 68pF
footprint CAPRD12.5-8X6 (Capacitor, Ceramic, Thru-Hole, Disc; Body 8 x 6 mm (LxW max) Pin Spacing 12.5 mm (typ))
simulation model CAP (Capacitor)
signal-integrity model Cap
pins: 1, 2

## WKP680MCPEF0K
designator C?
Ceramic Disc Suppression Capacitor, Class X1 AC 760V / Class Y1 AC 500V: 68pF +/-20% K 1200; Note: See Datasheet for other lead types & tolerances; Published: 17-Dec-2003; DatasheetDocument: 6-Oct-2000; PackageDocument: 2-Aug-2001; PackageReference: CAPRD12.5-8X6; Publisher: Altium Limited; ComponentLink1Description: Manufacturer Link; ComponentLink1URL: http://www.vishay.com/; ComponentLink2Description: Datasheet; ComponentLink2URL: http://www.vishay.com/docs/22206/wkp.pdf; Value: 68pF
footprint CAPRD12.5-8X6 (Capacitor, Ceramic, Thru-Hole, Disc; Body 8 x 6 mm (LxW max) Pin Spacing 12.5 mm (typ))
simulation model CAP (Capacitor)
signal-integrity model Cap
pins: 1, 2

## WKP681MCPED0K
designator C?
Ceramic Disc Suppression Capacitor, Class X1 AC 760V / Class Y1 AC 500V: 680pF +/-20% K 2000; Note: See Datasheet for other lead types & tolerances; Published: 17-Dec-2003; DatasheetDocument: 6-Oct-2000; PackageDocument: 2-Aug-2001; PackageReference: CAPRD12.5-9X6; Publisher: Altium Limited; ComponentLink1Description: Manufacturer Link; ComponentLink1URL: http://www.vishay.com/; ComponentLink2Description: Datasheet; ComponentLink2URL: http://www.vishay.com/docs/22206/wkp.pdf; Value: 680pF
footprint CAPRD12.5-9X6 (Capacitor, Ceramic, Thru-Hole, Disc; Body 9 x 6 mm (LxW max) Pin Spacing 12.5 mm (typ))
simulation model CAP (Capacitor)
signal-integrity model Cap
pins: 1, 2

## WKP681MCPEF0K
designator C?
Ceramic Disc Suppression Capacitor, Class X1 AC 760V / Class Y1 AC 500V: 680pF +/-20% K 2000; Note: See Datasheet for other lead types & tolerances; Published: 17-Dec-2003; DatasheetDocument: 6-Oct-2000; PackageDocument: 2-Aug-2001; PackageReference: CAPRD12.5-9X6; Publisher: Altium Limited; ComponentLink1Description: Manufacturer Link; ComponentLink1URL: http://www.vishay.com/; ComponentLink2Description: Datasheet; ComponentLink2URL: http://www.vishay.com/docs/22206/wkp.pdf; Value: 680pF
footprint CAPRD12.5-9X6 (Capacitor, Ceramic, Thru-Hole, Disc; Body 9 x 6 mm (LxW max) Pin Spacing 12.5 mm (typ))
simulation model CAP (Capacitor)
signal-integrity model Cap
pins: 1, 2

## WYO102MCMBF0K
designator C?
Ceramic AC Capacitor, Class X1 440VAC / Class Y2 250VAC: 1000pF K 4000; Note: See Datasheet for other lead types; Value: 1nF; Published: 17-Dec-2003; DatasheetDocument: 2-Aug-2001; PackageDocument: 2-Aug-2001; PackageReference: CAPRD5-6.5X4.5; Publisher: Altium Limited; ComponentLink1Description: Manufacturer Link; ComponentLink1URL: http://www.vishay.com/; ComponentLink2Description: Datasheet; ComponentLink2URL: http://www.vishay.com/docs/22202/wyo.pdf
footprint CAPRD5-6.5X4.5 (Capacitor, Ceramic, Thru-Hole, Disc; Body 6.5 x 4.5 mm (LxW max) Pin Spacing 5 mm (typ))
simulation model CAP (Capacitor)
signal-integrity model Cap
pins: 1, 2

## WYO103MCMCF0K
designator C?
Ceramic AC Capacitor, Class X1 440VAC / Class Y2 250VAC: 10nF K 4000; Note: See Datasheet for other lead types; Published: 17-Dec-2003; DatasheetDocument: 2-Aug-2001; PackageDocument: 2-Aug-2001; PackageReference: CAPRD7.5-21X4.5; Publisher: Altium Limited; ComponentLink1Description: Manufacturer Link; ComponentLink1URL: http://www.vishay.com/; ComponentLink2Description: Datasheet; ComponentLink2URL: http://www.vishay.com/docs/22202/wyo.pdf; Value: 10nF
footprint CAPRD7.5-21X4.5 (Capacitor, Ceramic, Thru-Hole, Disc; Body 21 x 4.5 mm (LxW max) Pin Spacing 7.5 mm (typ))
simulation model CAP (Capacitor)
signal-integrity model Cap
pins: 1, 2

## WYO123MCMCF0K
designator C?
Ceramic AC Capacitor, Class X1 440VAC / Class Y2 250VAC: 12nF K 4000; Note: See Datasheet for other lead types; Published: 17-Dec-2003; DatasheetDocument: 2-Aug-2001; PackageDocument: 2-Aug-2001; PackageReference: CAPRD7.5-21X4.5; Publisher: Altium Limited; ComponentLink1Description: Manufacturer Link; ComponentLink1URL: http://www.vishay.com/; ComponentLink2Description: Datasheet; ComponentLink2URL: http://www.vishay.com/docs/22202/wyo.pdf; Value: 12nF
footprint CAPRD7.5-21X4.5 (Capacitor, Ceramic, Thru-Hole, Disc; Body 21 x 4.5 mm (LxW max) Pin Spacing 7.5 mm (typ))
simulation model CAP (Capacitor)
signal-integrity model Cap
pins: 1, 2

## WYO152MCMBF0K
designator C?
Ceramic AC Capacitor, Class X1 440VAC / Class Y2 250VAC: 1500pF K 4000; Note: See Datasheet for other lead types; Value: 1.5nF; Published: 17-Dec-2003; DatasheetDocument: 2-Aug-2001; PackageDocument: 2-Aug-2001; PackageReference: CAPRD5-8X4.5; Publisher: Altium Limited; ComponentLink1Description: Manufacturer Link; ComponentLink1URL: http://www.vishay.com/; ComponentLink2Description: Datasheet; ComponentLink2URL: http://www.vishay.com/docs/22202/wyo.pdf
footprint CAPRD5-8X4.5 (Capacitor, Ceramic, Thru-Hole, Disc; Body 8 x 4.5 mm (LxW max) Pin Spacing 5 mm (typ))
simulation model CAP (Capacitor)
signal-integrity model Cap
pins: 1, 2

## WYO182MCMBF0K
designator C?
Ceramic AC Capacitor, Class X1 440VAC / Class Y2 250VAC: 1800pF K 4000; Note: See Datasheet for other lead types; Value: 1.8nF; Published: 17-Dec-2003; DatasheetDocument: 2-Aug-2001; PackageDocument: 2-Aug-2001; PackageReference: CAPRD5-8X4.5; Publisher: Altium Limited; ComponentLink1Description: Manufacturer Link; ComponentLink1URL: http://www.vishay.com/; ComponentLink2Description: Datasheet; ComponentLink2URL: http://www.vishay.com/docs/22202/wyo.pdf
footprint CAPRD5-8X4.5 (Capacitor, Ceramic, Thru-Hole, Disc; Body 8 x 4.5 mm (LxW max) Pin Spacing 5 mm (typ))
simulation model CAP (Capacitor)
signal-integrity model Cap
pins: 1, 2